# EAGLE library part DS5000T (library greg)
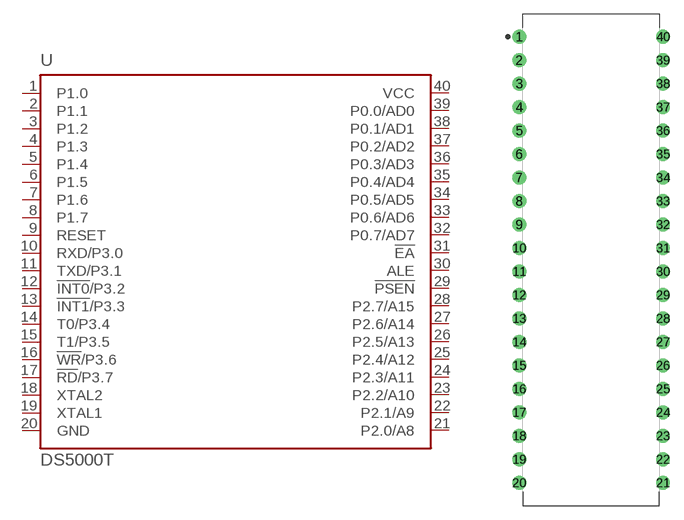
[diagram p30: symbol with the pads of DIP1555W55P254L5175H635Q40B; footprint DIP1555W55P254L5175H635Q40B]

Designator prefix -

## DS5000T  [DIP1555W55P254L5175H635Q40B]
1  P1.0
2  P1.1
3  P1.2
4  P1.3
5  P1.4
6  P1.5
7  P1.6
8  P1.7
9  RESET  in
10  RXD/P3.0  in
11  TXD/P3.1
12  !INT0!/P3.2
13  !INT1!/P3.3
14  T0/P3.4  in
15  T1/P3.5
16  !WR!/P3.6
17  !RD!/P3.7
18  XTAL2
19  XTAL1
20  GND  pwr
21  P2.0/A8
22  P2.1/A9
23  P2.2/A10
24  P2.3/A11
25  P2.4/A12
26  P2.5/A13
27  P2.6/A14
28  P2.7/A15
29  !PSEN!
30  ALE
31  !EA!
32  P0.7/AD7
33  P0.6/AD6
34  P0.5/AD5
35  P0.4/AD4
36  P0.3/AD3
37  P0.2/AD2
38  P0.1/AD1
39  P0.0/AD0
40  VCC  pwr

## Footprint DIP1555W55P254L5175H635Q40B (pad centres in mm)
40-DIP, 2.54 mm (0.10 in) pitch, 15.55 mm (0.61 in) span, 51.75 X 13.53 X 6.35 mm body 40-pin DIP package with 2.54 mm (0.10 in) pitch, 15.55 mm (0.61 in) span with body size 51.75 X 13.53 X 6.35 mm
drill 0.876 pad 1.476: 1 -7.777,24.13; 2 -7.777,21.59; 3 -7.777,19.05; 4 -7.777,16.51; 5 -7.777,13.97; 6 -7.777,11.43; 7 -7.777,8.89; 8 -7.777,6.35; 9 -7.777,3.81; 10 -7.777,1.27; 11 -7.777,-1.27; 12 -7.777,-3.81; 13 -7.777,-6.35; 14 -7.777,-8.89; 15 -7.777,-11.43; 16 -7.777,-13.97; 17 -7.777,-16.51; 18 -7.777,-19.05; 19 -7.777,-21.59; 20 -7.777,-24.13; 21 7.777,-24.13; 22 7.777,-21.59; 23 7.777,-19.05; 24 7.777,-16.51; 25 7.777,-13.97; 26 7.777,-11.43; 27 7.777,-8.89; 28 7.777,-6.35; 29 7.777,-3.81; 30 7.777,-1.27; 31 7.777,1.27; 32 7.777,3.81; 33 7.777,6.35; 34 7.777,8.89; 35 7.777,11.43; 36 7.777,13.97; 37 7.777,16.51; 38 7.777,19.05; 39 7.777,21.59; 40 7.777,24.13